# EAGLE library part TDA8138A (library aggiunte)
TDA8138 Regolatore di tensione a 5v1 e 12v @ 1A
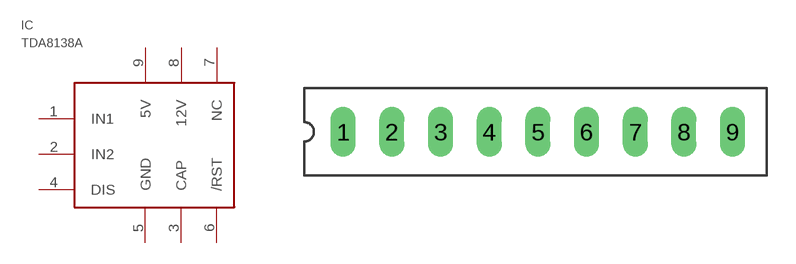
[diagram p2: symbol with the pads of TDA8138A; footprint TDA8138A]

Designator prefix IC

## TDA8138A  [TDA8138A]
1  IN1  in
2  IN2  in
3  CAP  in
4  DIS  in
5  GND  in
6  /RST  in
7  NC  nc
8  12V  out
9  5V  out

## Footprint TDA8138A (pad centres in mm)
TDA8138 Regolatore di tensione a 5v1 e 12v @ 1A
drill 0.8 long: 1 -7.62,0; 2 -5.08,0; 3 -2.54,0; 4 0,0; 5 2.54,0; 6 5.08,0; 7 7.62,0; 8 10.16,0; 9 12.7,0